# EAGLE library part HMC5883 (library freeimu-components)
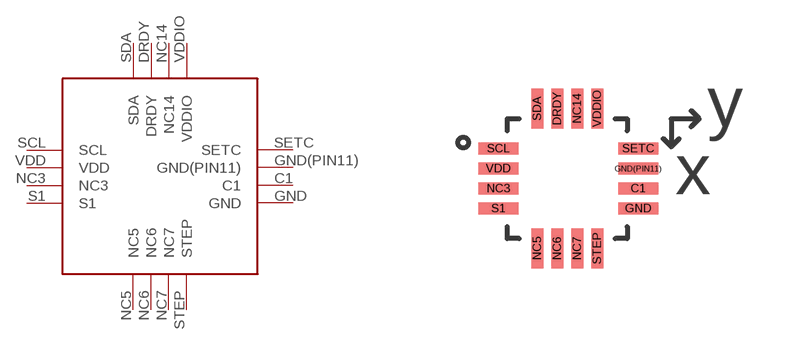
[diagram p3: symbol with the pads of HMC5883; footprint HMC5883]

Designator prefix -

## HMC5883 (CHIP: HMC5883L)  [HMC5883]
C1  C1
DRDY  DRDY
GND  GND
GND(PIN11)  GND(PIN11)
NC3  NC3
NC5  NC5
NC6  NC6
NC7  NC7
NC14  NC14
S1  S1
SCL  SCL
SDA  SDA
SETC  SETC
STEP  STEP
VDD  VDD
VDDIO  VDDIO

## Footprint HMC5883 (pad centres in mm)
smd 1 x 0.3: C1 3.275,1.25; GND 3.275,0.75; GND(PIN11) 3.275,1.75; NC3 -0.225,1.25; S1 -0.225,0.75; SCL -0.225,2.25; SETC 3.275,2.25; VDD -0.225,1.75
smd 0.3 x 1: DRDY 1.25,3.25; NC5 0.75,-0.25; NC6 1.25,-0.25; NC7 1.75,-0.25; NC14 1.75,3.25; SDA 0.75,3.25; STEP 2.25,-0.25; VDDIO 2.25,3.25